# Altium schematic symbol library R.SchLib: 90 symbols (part 1 of 2)
Pins are listed as number, name and electrical type; pins without a type are passive.

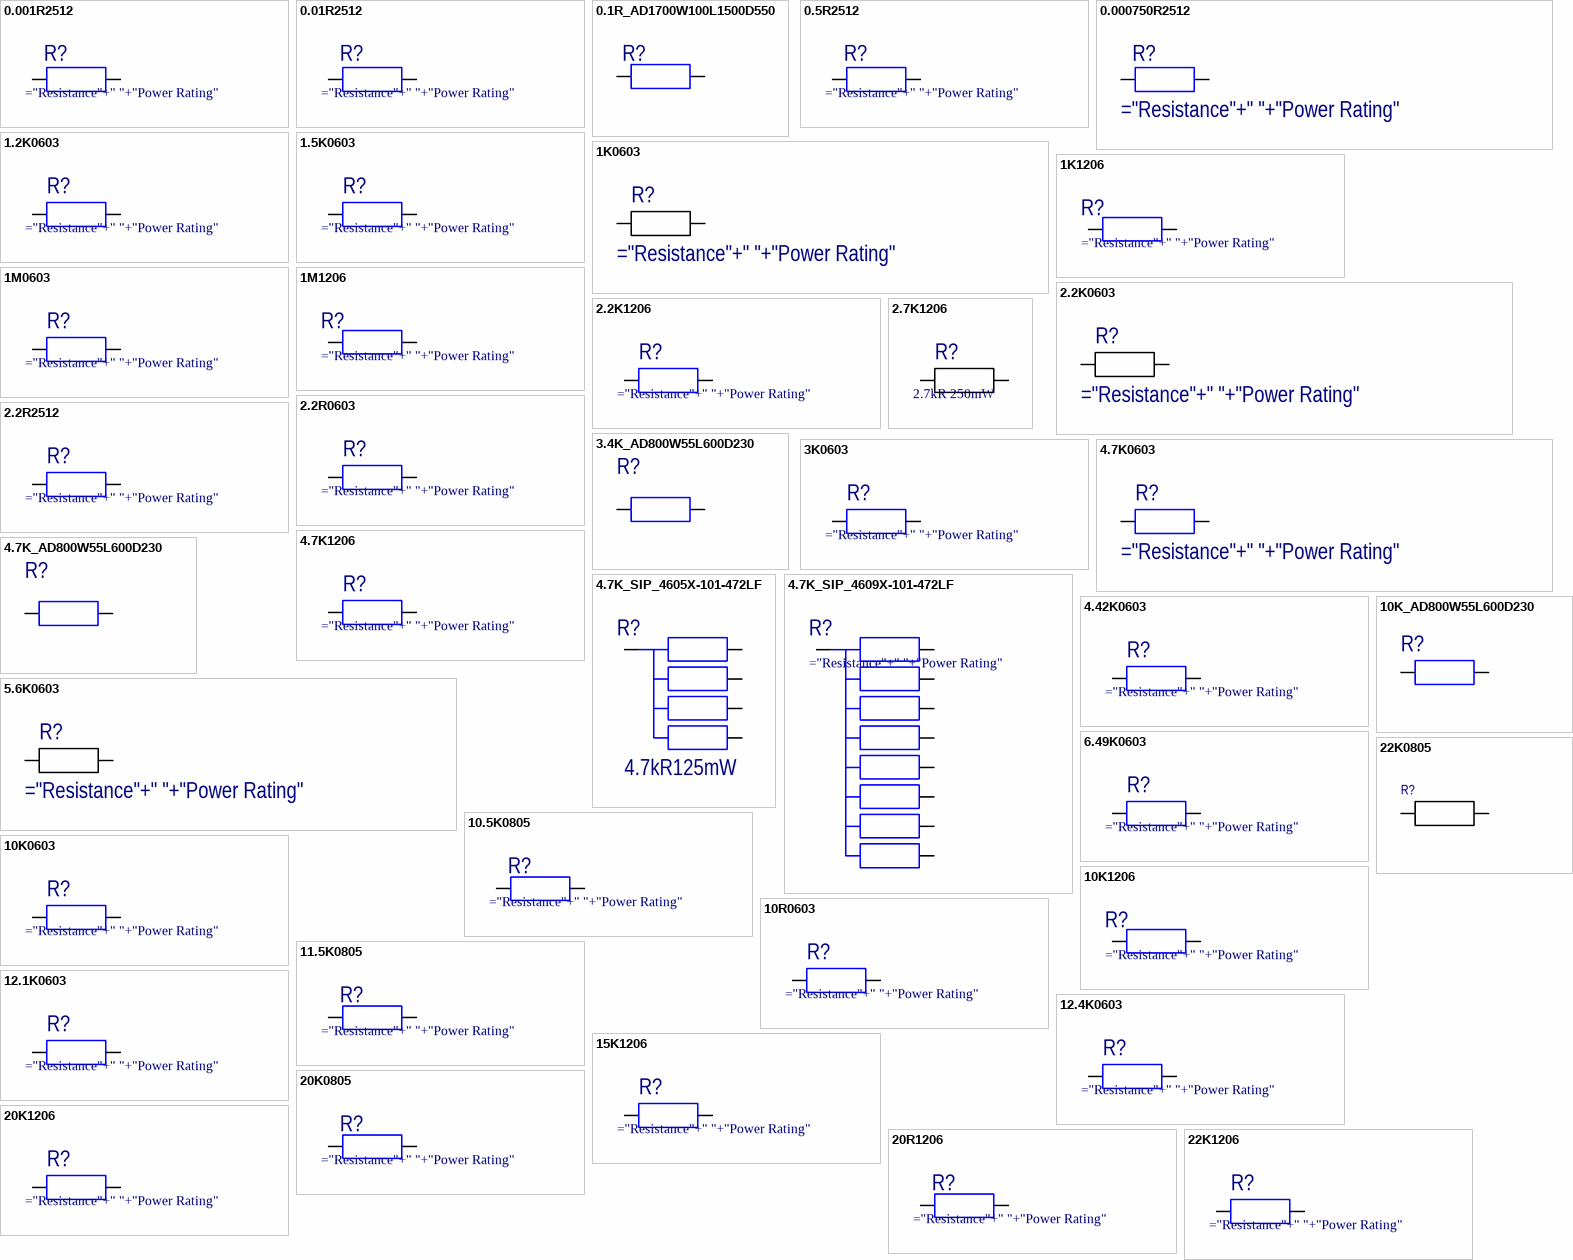
[diagram p0: symbols 0.001R2512 to 22K1206]

## 0.001R2512
designator R?
RES 0.001 OHM 1% 1W 2512; Manufacturer Part Number: PA2512FKF070R001E; Manufacturer: Yageo; SMD: 1
footprint RESC6432X09M/2512 (Chip Resistor, 2-Leads, Body 6,35x3,18mm, IPC Low Density)
pins: 1, 2

## 0.01R2512
designator R?
RES 0.01 OHM 0.5% 2W 2512; Manufacturer Part Number: PE2512DKE7W0R01L; Manufacturer: Yageo; SMD: 1
footprint RESC6332X07N/2512 (Chip Resistor, 2-Leads, Body 6,30x3,20mm, IPC Medium Density)
pins: 1, 2

## 0.1R_AD1700W100L1500D550
designator R?
RES 0.1 OHM 3W 1% AXIAL; Manufacturer: Stackpole Electronics Inc; Manufacturer Part Number: MR3FTR100; TH: 1
footprint RESAD1700W100L1500D550
pins: 1, 2

## 0.5R2512
designator R?
RES 0.5 OHM 1% 2W 2512; Manufacturer Part Number: RCWE2512R500FKEA; Manufacturer: Vishay Dale; SMD: 1
footprint RESC6332X07N/2512 (Chip Resistor, 2-Leads, Body 6,30x3,20mm, IPC Medium Density)
pins: 1, 2

## 0.000750R2512
designator R?
RES 750 UOHM 1% 1W 2512; Manufacturer Part Number: TLR3A10DR00075FTDG; Manufacturer: TE Connectivity Passive Product; SMD: 1
footprint RESC6332X07N/2512 (Chip Resistor, 2-Leads, Body 6,30x3,20mm, IPC Medium Density)
pins: 1, 2

## 1.2K0603
designator R?
RES SMD 1.2K OHM 1% 1/4W 0603; Manufacturer Part Number: RCS06031K20FKEA; Manufacturer: Vishay Dale; SMD: 1
footprint RESC1608X06N/0603 (Chip Resistor, 2-Leads, Body 1,60x0,82mm, IPC Medium Density)
pins: 1, 2

## 1.5K0603
designator R?
RES SMD 1.5K OHM 1% 1/8W 0603; Manufacturer Part Number: MCT06030C1501FP500; Manufacturer: Vishay Beyschlag; SMD: 1
footprint RESC1608X06N/0603 (Chip Resistor, 2-Leads, Body 1,60x0,82mm, IPC Medium Density)
pins: 1, 2

## 1K0603
designator R?
RES SMD 1K OHM 1% 1/10W 0603; Manufacturer Part Number: MCT06030C1001FP500; Manufacturer: Vishay Beyschlag; Resistance: 1kR; Temperature Coefficient: 50ppm/°C; Power Rating: 100mW; Voltage Rating (DC): 75V; Max Power Dissipation: 125mW; SMD: 1; Supplier 1: Digi-Key; RoHS: Yes; Category: Chip SMD Resistors; Stock 1: 195907; Pricing 1: 1=0,13000, 10=0,12100, 100=0,04650, 1000=0,02046, 2500=0,01767 (USD); Mount: Surface Mount; Case/Package: 0603; Contact Plating: Tin; Weight: 7.1E-05oz; Case Code (Metric): 1608; Case Code (Imperial): 0603; Min Operating Temperature: -55°C; Max Operating Temperature: 125°C; Tolerance: 1%; Resistor Type: Thin Film; Package Quantity: 1; Packaging: Tape and Reel; Voltage Rating: 75V; Number of Terminations: 2; Termination: SMD/SMT; Length: 1.55mm; Width: 0.033inch; Height: 0.022inch; Depth: 0.85mm; Radiation Hardening: No; Lead Free: Lead Free; Military Standard: Not; REACH SVHC: Unknown; ComponentLink1URL: https://datasheet.ciiva.com/2470/mc-pro-2470372.pdf?src-supplier=Digi-Key; ComponentLink1Description: https://datasheet.ciiva.com/2470/mc-pro-2470372.pdf?src-supplier=Digi-Key; ComponentLink2URL: https://datasheet.ciiva.com/2470/mc-pro-2470373.pdf?src-supplier=Digi-Key; ComponentLink2Description: https://datasheet.ciiva.com/2470/mc-pro-2470373.pdf?src-supplier=Digi-Key; ComponentLink3URL: https://datasheet.ciiva.com/16892/mc-pro-16892981.pdf?src-supplier=Avnet+Europe; ComponentLink3Description: https://datasheet.ciiva.com/16892/mc-pro-16892981.pdf?src-supplier=Avnet+Europe; ComponentLink4URL: https://datasheet.ciiva.com/2470/mc-pro-2470374.pdf?src-supplier=Digi-Key; ComponentLink4Description: https://datasheet.ciiva.com/2470/mc-pro-2470374.pdf?src-supplier=Digi-Key; ComponentLink5URL: https://datasheet.ciiva.com/9112/mc-pro-9112523.pdf?src-supplier=Avnet; ComponentLink5Description: https://datasheet.ciiva.com/9112/mc-pro-9112523.pdf?src-supplier=Avnet; ComponentLink6URL: https://datasheet.ciiva.com/16452/mc-pro-16452732.pdf?src-supplier=Future+Electronics; ComponentLink6Description: https://datasheet.ciiva.com/16452/mc-pro-16452732.pdf?src-supplier=Future+Electronics; Supplier Part Number 1: MCT0603-1.00K-CFCT-ND
footprint RESC1608X06N/0603 (Chip Resistor, 2-Leads, Body 1,60x0,82mm, IPC Medium Density)
pins: 1, 2

## 1K1206
designator R?
RES SMD 1K OHM 1% 1/4W 1206; Manufacturer: Rohm Semiconductor; Manufacturer Part Number: MCR18EZHF1001; SMD: 1
footprint RESC1608X06N/0603 (Footprint not found)
pins: 1, 2

## 1M0603
designator R?
RES SMD 1M OHM 1% 1/10W 0603; Manufacturer Part Number: CRCW06031M00FKEA; Manufacturer: Vishay Beyschlag; SMD: 1
footprint RESC1608X06N/0603 (Chip Resistor, 2-Leads, Body 1,60x0,82mm, IPC Medium Density)
pins: 1, 2

## 1M1206
designator R?
RES SMD 1M OHM 5% 1/4W 1206; Manufacturer Part Number: KTR18EZPJ105; Manufacturer: Rohm; SMD: 1
footprint RESC3216X07N/1206 (Chip Resistor, 2-Leads, Body 3,20x1,60mm, IPC Medium Density)
pins: 1, 2

## 2.2K0603
designator R?
AC Series 2.2 KOhm ±1% 1/10 W 0603 SMT Thick Film Chip Resistor; Manufacturer: Yageo; Manufacturer Part Number: AC0603FR-072K2L; Resistance: 2.2kR; Power Rating: 100mW; Voltage Rating: 50V; Temperature Coefficient: 100ppm/°C; Supplier 1: Digi-Key; RoHS: Yes; Category: Chip SMD Resistors; Stock 1: 173649; Pricing 1: 1=0,10000, 10=0,02500, 100=0,01020, 1000=0,00458, 2500=0,00398 (USD); Case/Package: 0603; Case Code (Metric): 1608; Case Code (Imperial): 0603; Min Operating Temperature: -55°C; Max Operating Temperature: 155°C; Tolerance: 1%; Packaging: Tape and Reel; Package Quantity: 1; Resistor Type: Thick Film; Number of Terminations: 2; Termination: SMD/SMT; Max Power Dissipation: 100mW; Features: Moisture Resistant,Automotive AEC-Q200,Anti-Sulfur; Length: 0.063inch; Width: 0.031inch; Height: 0.022inch; Depth: 0.8mm; Military Standard: Not; Lead Free: Lead Free; ComponentLink1URL: https://datasheet.ciiva.com/5558/pyu-ac-51-rohs-l-2-5558158.pdf?src-supplier=Mouser; ComponentLink1Description: https://datasheet.ciiva.com/5558/pyu-ac-51-rohs-l-2-5558158.pdf?src-supplier=Mouser; Supplier Part Number 1: 311-2.2KLDCT-ND
footprint RESC1608X06N/0603 (Chip Resistor, 2-Leads, Body 1,60x0,82mm, IPC Medium Density)
pins: 1, 2

## 2.2K1206
designator R?
RES SMD 2.2 KOHM 1% 1/4W 1206; Manufacturer: Yageo; Manufacturer Part Number: RC1206FR-072K2L; SMD: 1
footprint RESC3216X07N/1206 (Chip Resistor, 2-Leads, Body 3,20x1,60mm, IPC Medium Density)
pins: 1, 2

## 2.2R0603
designator R?
RES SMD 2.2 OHM 1% 1/4W 0603; Manufacturer Part Number: RCS06032R20FKEA; Manufacturer: Vishay Dale; SMD: 1
footprint RESC1608X06N/0603 (Chip Resistor, 2-Leads, Body 1,60x0,82mm, IPC Medium Density)
pins: 1, 2

## 2.2R2512
designator R?
RES 2.2 OHM 1% 1W 2512; Manufacturer Part Number: RMCF2512FT2R20; Manufacturer: Stackpole Electronics Inc; SMD: 1
footprint RESC6332X07N/2512 (Chip Resistor, 2-Leads, Body 6,30x3,20mm, IPC Medium Density)
pins: 1, 2

## 2.7K1206
designator R?, comment 2.7kR 250mW
Thick Film Resistors 2.7K OHM 1%; Manufacturer: Yageo; Manufacturer Part Number: RC1206FR-072K7L; Temperature Coefficient: 100ppm/°C; Voltage Rating: 200V; SMD: 1; Supplier 1: Digi-Key; Supplier Part Number 1: 311-2.70KFRCT-ND; RoHS: Yes; Category: Chip SMD Resistors; Stock: 450214; Pricing: 1=0,10000, 10=0,07400, 100=0,03010, 1000=0,01353, 2500=0,01174 (USD); Case/Package: 1206; Case Code (Imperial): 1206; Case Code (Metric): 3216; Weight: 0.000571oz; Size Code: 1206; Min Operating Temperature: -55°C; Max Operating Temperature: 155°C; Tolerance: 1%; Resistance: 2.7kR; Power Rating: 250mW; Packaging: Tape and Reel; Termination: SMD/SMT; Resistor Type: Thick Film; Features: Moisture Resistant; Series: RC; Max Power Dissipation: 250mW; Number of Terminations: 2; Resistance Tolerance: 1%; Construction: Rectangular; Length: 3.2mm; Width: 1.6mm; Height: 0.55mm; Depth: 1.6mm; REACH SVHC: Unknown; Lead Free: Lead Free; Military Standard: Not; RoHS Compliant: Yes; ComponentLink1URL: https://datasheet.ciiva.com/7857/444357-7857317.pdf?src-supplier=Element14; ComponentLink1Description: https://datasheet.ciiva.com/7857/444357-7857317.pdf?src-supplier=Element14; ComponentLink2URL: https://datasheet.ciiva.com/7857/444357-7857318.pdf?src-supplier=Element14; ComponentLink2Description: https://datasheet.ciiva.com/7857/444357-7857318.pdf?src-supplier=Element14
footprint RESC2012X07 (Chip Resistor, 2-Leads, Body 2,00x1,25mm, IPC Medium Density 0805)
pins: 1, 2

## 3.4K_AD800W55L600D230
designator R?
RES 3.4K OHM 1/4W 1% AXIAL; Manufacturer: Stackpole Electronics; Manufacturer Part Number: RNF14FTD3K40; TH: 1
footprint RESAD800W55L600D230
pins: 1, 2

## 3K0603
designator R?
RES SMD 3K OHM 1% 1/4W 0603; Manufacturer Part Number: ERJ-PA3F3001V; Manufacturer: Panasonic Electronic Components; SMD: 1
footprint RESC1608X06N/0603 (Chip Resistor, 2-Leads, Body 1,60x0,82mm, IPC Medium Density)
pins: 1, 2

## 4.7K0603
designator R?
RES SMD 4.7K OHM 1% 1/8W 0603; Manufacturer Part Number: MCT06030C4701FP500; Manufacturer: Vishay Beyschlag; Temperature Coefficient: 50ppm/°C; Resistance: 4.7kR; Max Power Dissipation: 125mW; Voltage Rating (DC): 75V; SMD: 1; Supplier 1: Digi-Key; RoHS: Yes; Category: Chip SMD Resistors; Stock 1: 55409; Pricing 1: 1=0,13000, 10=0,12100, 100=0,04650, 1000=0,02046, 2500=0,01767 (USD); Mount: Surface Mount; Case/Package: 0603; Contact Plating: Tin; Case Code (Imperial): 0603; Case Code (Metric): 1608; Min Operating Temperature: -55°C; Max Operating Temperature: 125°C; Tolerance: 1%; Resistor Type: Thin Film; Packaging: Tape and Reel; Power Rating: 125mW; Package Quantity: 1; Number of Terminations: 2; Voltage Rating: 75V; Length: 1.55mm; Width: 0.033inch; Height: 0.022inch; Depth: 0.85mm; Radiation Hardening: No; Lead Free: Lead Free; Military Standard: Not; REACH SVHC: No SVHC; ComponentLink1URL: https://datasheet.ciiva.com/8897/mc-pro-8897829.pdf?src-supplier=Avnet; ComponentLink1Description: https://datasheet.ciiva.com/8897/mc-pro-8897829.pdf?src-supplier=Avnet; ComponentLink2URL: https://datasheet.ciiva.com/2525/mc-pro-2525199.pdf?src-supplier=Digi-Key; ComponentLink2Description: https://datasheet.ciiva.com/2525/mc-pro-2525199.pdf?src-supplier=Digi-Key; ComponentLink3URL: https://datasheet.ciiva.com/16452/mc-pro-16452668.pdf?src-supplier=Future+Electronics; ComponentLink3Description: https://datasheet.ciiva.com/16452/mc-pro-16452668.pdf?src-supplier=Future+Electronics; ComponentLink4URL: https://datasheet.ciiva.com/2525/mc-pro-2525197.pdf?src-supplier=Digi-Key; ComponentLink4Description: https://datasheet.ciiva.com/2525/mc-pro-2525197.pdf?src-supplier=Digi-Key; ComponentLink5URL: https://datasheet.ciiva.com/2525/mc-pro-2525198.pdf?src-supplier=Digi-Key; ComponentLink5Description: https://datasheet.ciiva.com/2525/mc-pro-2525198.pdf?src-supplier=Digi-Key; Supplier Part Number 1: MCT0603-4.70K-CFCT-ND
footprint RESC1608X06N/0603 (Chip Resistor, 2-Leads, Body 1,60x0,82mm, IPC Medium Density)
pins: 1, 2

## 4.7K1206
designator R?
RES SMD 4.7K OHM 1% 1/4W 1206; Manufacturer: Panasonic; Manufacturer Part Number: ERJ-8ENF4701V; SMD: 1
footprint RESC3216X07N/1206 (Chip Resistor, 2-Leads, Body 3,20x1,60mm, IPC Medium Density)
pins: 1, 2

## 4.7K_AD800W55L600D230
designator R?
RES 4.7K OHM 1/4W 5% AXIAL; Manufacturer: Stackpole Electronics; Manufacturer Part Number: CF14JT4K70; TH: 1
footprint RESAD800W55L600D230
pins: 1, 2

## 4.7K_SIP_4605X-101-472LF
designator R?, comment 4.7kR125mW
Res Thick Film NET 4.7K Ohm 2% 0.63W 100ppm/ C BUS Conformal 5-Pin SIP Pin Thru-Hole Bulk; Manufacturer: Bourns; Manufacturer Part Number: 4605X-101-472LF; TH: 1; Number of Terminals/Pins: 5; Resistance: 4.7kR; Number of Resistors: 4; Temperature Coefficient: 100ppm/°C; Power Rating: 630mW; Voltage Rating: 100V; Circuit Type: Bussed; Power Per Element: 125mW; Insulation Resistance: 10MR; Lead Length: 3.43mm; Lead Diameter: 0.508mm; Supplier 1: Digi-Key; RoHS: Yes; Category: Resistor Arrays; Stock 1: 1164; Pricing 1: 1=0,50000, 10=0,36000, 25=0,28080, 50=0,23760, 100=0,18720, 250=0,15840, 500=0,12960, 1000=0,10080, 5000=0,09576 (USD); Mount: Through Hole; Case/Package: SIP; Number of Pins: 5; Weight: 0.009224oz; Min Operating Temperature: -55°C; Max Operating Temperature: 125°C; Packaging: Bulk; Number of Elements: 4; Tolerance: 2%; Package Quantity: 200; Termination: SIP; Series: 4600X; Length: 12.65mm; Width: 2.49mm; Height: 5.08mm; Lead Pitch: 2.54mm; Depth: 2.49mm; Terminal Pitch: 2.54mm; Radiation Hardening: No; REACH SVHC: No SVHC; Military Standard: Not; RoHS Compliant: Yes; ComponentLink1URL: https://datasheet.ciiva.com/3263/4600x-3263632.pdf?src-supplier=Avnet; ComponentLink1Description: https://datasheet.ciiva.com/3263/4600x-3263632.pdf?src-supplier=Avnet; ComponentLink2URL: https://datasheet.ciiva.com/11807/0900766b8069ccfd-11807025.pdf?src-supplier=RSComponents; ComponentLink2Description: https://datasheet.ciiva.com/11807/0900766b8069ccfd-11807025.pdf?src-supplier=RSComponents; ComponentLink3URL: https://datasheet.ciiva.com/1132/682196-1132966.pdf?src-supplier=Element14; ComponentLink3Description: https://datasheet.ciiva.com/1132/682196-1132966.pdf?src-supplier=Element14; ComponentLink4URL: https://datasheet.ciiva.com/6533/4600x-6533599.pdf?src-supplier=Digi-Key; ComponentLink4Description: https://datasheet.ciiva.com/6533/4600x-6533599.pdf?src-supplier=Digi-Key; Supplier Part Number 1: 4605X-101-472LF-ND
footprint SIP-5
pins: 1, 2, 3, 4, 5

## 4.7K_SIP_4609X-101-472LF
designator R?
RES ARRAY 8 RES 4.7K OHM 9SIP; Manufacturer: Bourns; Manufacturer Part Number: 4609X-101-472LF; TH: 1
footprint SIP250W55P254L2280H500Q9
pins: 1, 2, 3, 4, 5, 6, 7, 8, 9

## 4.42K0603
designator R?
RES SMD 4.42K OHM 1% 1/8W 0603; Manufacturer Part Number: MCT06030C4421FP500; Manufacturer: Vishay Beyschlag; SMD: 1
footprint RESC1608X06N/0603 (Chip Resistor, 2-Leads, Body 1,60x0,82mm, IPC Medium Density)
pins: 1, 2

## 5.6K0603
designator R?
RES 5.6K OHM 1% 1/10W 0603; Manufacturer Part Number: RMCF0603FT5K60; Manufacturer: Stackpole Electronics Inc; Resistance: 5.6kR; Max Power Dissipation: 100mW; Temperature Coefficient: 100ppm/°C; SMD: 1; Supplier 1: Digi-Key; RoHS: Yes; Category: Chip SMD Resistors; Stock 1: 42751; Pricing 1: 1=0,10000, 10=0,01600, 100=0,00650, 1000=0,00292, 2500=0,00253 (USD); Mount: Surface Mount; Case/Package: 0603; Case Code (Metric): 1608; Case Code (Imperial): 0603; Contact Plating: Tin,Matte; Min Operating Temperature: -55°C; Max Operating Temperature: 155°C; Packaging: Tape and Reel; Tolerance: 1%; Resistor Type: Thick Film; Number of Terminations: 2; Features: Automotive AEC-Q200; Series: RMCF; Length: 0.061inch; Width: 0.031inch; Height: 0.022inch; Radiation Hardening: No; RoHS Compliant: Yes; ComponentLink1URL: https://www.seielect.com/catalog/SEI-Packaging.pdf?src-supplier=Digi-Key; ComponentLink1Description: https://www.seielect.com/catalog/SEI-Packaging.pdf?src-supplier=Digi-Key; ComponentLink2URL: https://www.seielect.com/catalog/SEI-RMCF_RMCP.pdf?src-supplier=Avnet; ComponentLink2Description: https://www.seielect.com/catalog/SEI-RMCF_RMCP.pdf?src-supplier=Avnet; Supplier Part Number 1: RMCF0603FT5K60CT-ND; Power Rating: 100mW
footprint RESC1608X06N/0603 (Chip Resistor, 2-Leads, Body 1,60x0,82mm, IPC Medium Density)
pins: 1, 2

## 6.49K0603
designator R?
RES SMD 6.49K OHM 1% 1/8W 0603; Manufacturer Part Number: MCT06030C6491FP500; Manufacturer: Vishay Beyschlag; SMD: 1
footprint RESC1608X06N/0603 (Chip Resistor, 2-Leads, Body 1,60x0,82mm, IPC Medium Density)
pins: 1, 2

## 10.5K0805
designator R?
RES SMD 10.5K OHM 1% 1/8W 0805; Manufacturer Part Number: CRCW080510K5FKEA; Manufacturer: Vishay; SMD: 1
footprint RESC2012X07N/0805 (Chip Resistor, 2-Leads, Body 2,00x1,25mm, IPC Medium Density)
pins: 1, 2

## 10K0603
designator R?
RES SMD 10K OHM 1% 1/4W 0603; Manufacturer Part Number: ESR03EZPF1002; Manufacturer: Rohm Semiconductor; SMD: 1
footprint RESC1608X06N/0603 (Chip Resistor, 2-Leads, Body 1,60x0,82mm, IPC Medium Density)
pins: 1, 2

## 10K1206
designator R?
RES SMD 10K OHM 1% 1/4W 1206; Manufacturer: Panasonic; Manufacturer Part Number: ERJ8ENF1002V; SMD: 1
footprint RESC3216X07N/1206 (Chip Resistor, 2-Leads, Body 3,20x1,60mm, IPC Medium Density)
pins: 1, 2

## 10K_AD800W55L600D230
designator R?
RES 10K OHM 1/4W 5% AXIAL; Manufacturer: Stackpole Electronics; Manufacturer Part Number: CF14JT10K0; TH: 1
footprint RESAD800W55L600D230
pins: 1, 2

## 10R0603
designator R?
RES 10 OHM 1% 1/8W 0603; Manufacturer Part Number: RNCP0603FTD10R0; Manufacturer: Stackpole Electronics Inc; SMD: 1
footprint RESC1608X06N/0603 (Chip Resistor, 2-Leads, Body 1,60x0,82mm, IPC Medium Density)
pins: 1, 2

## 11.5K0805
designator R?
RES SMD 11.5K OHM 1% 1/8W 0805; Manufacturer Part Number: CRCW080511K5FKEA; Manufacturer: Vishay; SMD: 1
footprint RESC2012X07N/0805 (Chip Resistor, 2-Leads, Body 2,00x1,25mm, IPC Medium Density)
pins: 1, 2

## 12.1K0603
designator R?
RES SMD 12.1K OHM 1% 1/8W 0603; Manufacturer Part Number: MCT06030C1212FP500; Manufacturer: Vishay Beyschlag; SMD: 1
footprint RESC1608X06N/0603 (Chip Resistor, 2-Leads, Body 1,60x0,82mm, IPC Medium Density)
pins: 1, 2

## 12.4K0603
designator R?
RES SMD 12.4K OHM 1% 1/10W 0603; Manufacturer Part Number: RC0603FR-0712K4L; Manufacturer: Yageo; SMD: 1
footprint RESC1608X06N/0603 (Chip Resistor, 2-Leads, Body 1,60x0,82mm, IPC Medium Density)
pins: 1, 2

## 15K1206
designator R?
RES SMD 15K OHM 1% 1/4W 1206; Manufacturer: Panasonic; Manufacturer Part Number: ERJ-8ENF1502V; SMD: 1
footprint RESC3216X07N/1206 (Chip Resistor, 2-Leads, Body 3,20x1,60mm, IPC Medium Density)
pins: 1, 2

## 20K0805
designator R?
RES SMD 20K OHM 1% 1/8W 0805; Manufacturer Part Number: ERJ-6ENF2002V; Manufacturer: Panasonic; Resistance: 20kR; Temperature Coefficient: 100ppm/°C; Power Rating: 125mW; Voltage Rating: 150V; Description: VISHAY - CRCW080522K0FKEA - RES, THICK FILM, 22K, 1%, 0.125W, 0805, REEL; SMD: 1; Supplier 1: Digi-Key; Supplier Part Number 1: 541-20.0KCCT-ND; RoHS: Yes; Category: Chip SMD Resistors; Stock 1: 1324; Pricing 1: 1=0,10000, 10=0,06500, 100=0,02660, 1000=0,01195, 2500=0,01037 (USD); Mount: Surface Mount; Case/Package: 0805; Number of Pins: 2; Case Code (Imperial): 0805; Case Code (Metric): 2012; Contact Plating: Tin; Weight: 0.000194oz; Min Operating Temperature: -55°C; Max Operating Temperature: 155°C; Packaging: Tape and Reel; Tolerance: 1%; Resistor Type: Thick Film; Number of Terminations: 2; Series: CRCW; Max Power Dissipation: 125mW; Voltage Rating (DC): 150V; Package Quantity: 10; Termination: SMD/SMT; Features: Automotive AEC-Q200; Resistance Tolerance: 1%; Construction: Rectangular; Technology: THICK FILM; Working Voltage: 150V; Length: 2mm; Width: 1.25mm; Height: 0.45mm; Depth: 1.25mm; RoHS Compliant: Yes; Lead Free: Lead Free; REACH SVHC: Unknown; Military Standard: Not; ComponentLink1URL: https://datasheet.ciiva.com/11810/0900766b80d98b26-11810856.pdf?src-supplier=RSComponents; ComponentLink1Description: https://datasheet.ciiva.com/11810/0900766b80d98b26-11810856.pdf?src-supplier=RSComponents; ComponentLink2URL: https://datasheet.ciiva.com/5562/dcrcwe3-109170-5562293.pdf?src-supplier=Mouser; ComponentLink2Description: https://datasheet.ciiva.com/5562/dcrcwe3-109170-5562293.pdf?src-supplier=Mouser; ComponentLink3URL: https://datasheet.ciiva.com/16199/dcrcwe3-16199237.pdf?src-supplier=Future+Electronics; ComponentLink3Description: https://datasheet.ciiva.com/16199/dcrcwe3-16199237.pdf?src-supplier=Future+Electronics; ComponentLink4URL: https://datasheet.ciiva.com/8337/dcrcwe3-8337655.pdf?src-supplier=Avnet; ComponentLink4Description: https://datasheet.ciiva.com/8337/dcrcwe3-8337655.pdf?src-supplier=Avnet; ComponentLink5URL: https://datasheet.ciiva.com/16779/70201119-16779384.pdf?src-supplier=Allied+Electronics; ComponentLink5Description: https://datasheet.ciiva.com/16779/70201119-16779384.pdf?src-supplier=Allied+Electronics; ComponentLink6URL: https://datasheet.ciiva.com/26317/fld-crcw-e3-data-en-26317160.pdf?src-supplier=Distrelec; ComponentLink6Description: https://datasheet.ciiva.com/26317/fld-crcw-e3-data-en-26317160.pdf?src-supplier=Distrelec; ComponentLink7URL: https://datasheet.ciiva.com/16852/dcrcwe3-16852955.pdf?src-supplier=Avnet+Europe; ComponentLink7Description: https://datasheet.ciiva.com/16852/dcrcwe3-16852955.pdf?src-supplier=Avnet+Europe; ComponentLink8URL: https://datasheet.ciiva.com/2467/dcrcwe3-2467197.pdf?src-supplier=Digi-Key; ComponentLink8Description: https://datasheet.ciiva.com/2467/dcrcwe3-2467197.pdf?src-supplier=Digi-Key; ComponentLink9URL: https://datasheet.ciiva.com/2467/dcrcwe3-2467198.pdf?src-supplier=Digi-Key; ComponentLink9Description: https://datasheet.ciiva.com/2467/dcrcwe3-2467198.pdf?src-supplier=Digi-Key; ComponentLink10URL: https://datasheet.ciiva.com/7841/1720486-7841886.pdf?src-supplier=Element14; ComponentLink10Description: https://datasheet.ciiva.com/7841/1720486-7841886.pdf?src-supplier=Element14; ComponentLink11URL: https://datasheet.ciiva.com/2467/dcrcwe3-2467199.pdf?src-supplier=Digi-Key; ComponentLink11Description: https://datasheet.ciiva.com/2467/dcrcwe3-2467199.pdf?src-supplier=Digi-Key; Supplier 2: Digi-Key; Supplier Part Number 2: 541-22.0KCCT-ND; Stock: 9872; Pricing: 1=0,10000, 10=0,06500, 100=0,02660, 1000=0,01195, 2500=0,01037 (USD); Size Code: 0805; Radiation Hardening: No; ComponentLink12URL: https://datasheet.ciiva.com/7673/1720486-7673152.pdf?src-supplier=Element14; ComponentLink12Description: https://datasheet.ciiva.com/7673/1720486-7673152.pdf?src-supplier=Element14; ComponentLink13URL: https://datasheet.ciiva.com/11808/0900766b80d98b26-11808659.pdf?src-supplier=RSComponents; ComponentLink13Description: https://datasheet.ciiva.com/11808/0900766b80d98b26-11808659.pdf?src-supplier=RSComponents; ComponentLink14URL: https://datasheet.ciiva.com/2514/dcrcwe3-2514289.pdf?src-supplier=Digi-Key; ComponentLink14Description: https://datasheet.ciiva.com/2514/dcrcwe3-2514289.pdf?src-supplier=Digi-Key; ComponentLink15URL: https://datasheet.ciiva.com/2514/dcrcwe3-2514290.pdf?src-supplier=Digi-Key; ComponentLink15Description: https://datasheet.ciiva.com/2514/dcrcwe3-2514290.pdf?src-supplier=Digi-Key; ComponentLink16URL: https://datasheet.ciiva.com/2514/dcrcwe3-2514291.pdf?src-supplier=Digi-Key; ComponentLink16Description: https://datasheet.ciiva.com/2514/dcrcwe3-2514291.pdf?src-supplier=Digi-Key; ComponentLink17URL: https://datasheet.ciiva.com/7672/1697337-7672966.pdf?src-supplier=Element14; ComponentLink17Description: https://datasheet.ciiva.com/7672/1697337-7672966.pdf?src-supplier=Element14; ComponentLink18URL: https://datasheet.ciiva.com/16852/dcrcwe3-16852982.pdf?src-supplier=Avnet+Europe; ComponentLink18Description: https://datasheet.ciiva.com/16852/dcrcwe3-16852982.pdf?src-supplier=Avnet+Europe; ComponentLink19URL: https://datasheet.ciiva.com/5548/dcrcwe3-109170-5548344.pdf?src-supplier=Mouser; ComponentLink19Description: https://datasheet.ciiva.com/5548/dcrcwe3-109170-5548344.pdf?src-supplier=Mouser; ComponentLink20URL: https://datasheet.ciiva.com/26317/fld-crcw-e3-data-en-26317161.pdf?src-supplier=Distrelec; ComponentLink20Description: https://datasheet.ciiva.com/26317/fld-crcw-e3-data-en-26317161.pdf?src-supplier=Distrelec; ComponentLink21URL: https://datasheet.ciiva.com/3258/dcrcwe3-3258332.pdf?src-supplier=Avnet; ComponentLink21Description: https://datasheet.ciiva.com/3258/dcrcwe3-3258332.pdf?src-supplier=Avnet; ComponentLink22URL: https://datasheet.ciiva.com/3258/dcrcwe3-3258333.pdf?src-supplier=Avnet; ComponentLink22Description: https://datasheet.ciiva.com/3258/dcrcwe3-3258333.pdf?src-supplier=Avnet; ComponentLink23URL: https://datasheet.ciiva.com/22676/1847332-22676335.pdf?src-supplier=Element14; ComponentLink23Description: https://datasheet.ciiva.com/22676/1847332-22676335.pdf?src-supplier=Element14; Supplier 3: Digi-Key; Supplier Part Number 3: P20KBCCT-ND; ComponentLink24URL: https://datasheet.ciiva.com/6138/391390-6138645.pdf?src-supplier=Farnell; ComponentLink24Description: https://datasheet.ciiva.com/6138/391390-6138645.pdf?src-supplier=Farnell; ComponentLink25URL: https://datasheet.ciiva.com/48425/era-eng-tds-48425525.pdf?src-supplier=Distrelec; ComponentLink25Description: https://datasheet.ciiva.com/48425/era-eng-tds-48425525.pdf?src-supplier=Distrelec; ComponentLink26URL: https://datasheet.ciiva.com/28688/391390-28688583.pdf?src-supplier=Element14; ComponentLink26Description: https://datasheet.ciiva.com/28688/391390-28688583.pdf?src-supplier=Element14; ComponentLink27URL: https://datasheet.ciiva.com/48531/era-eng-tds-48531501.pdf?src-supplier=Distrelec; ComponentLink27Description: https://datasheet.ciiva.com/48531/era-eng-tds-48531501.pdf?src-supplier=Distrelec
footprint RESC2012X07 (Chip Resistor, 2-Leads, Body 2,00x1,25mm, IPC Medium Density 0805)
pins: 1, 2

## 20K1206
designator R?
RES SMD 20K OHM 1% 1/4W 1206; Manufacturer: Yageo; Manufacturer Part Number: RC1206FR-0720KL; SMD: 1
footprint RESC3216X07N/1206 (Chip Resistor, 2-Leads, Body 3,20x1,60mm, IPC Medium Density)
pins: 1, 2

## 20R1206
designator R?
RES SMD 20 OHM 1% 1/4W 1206; Manufacturer Part Number: ERJ-8ENF20R0V; Manufacturer: Panasonic Electronic Components; SMD: 1
footprint RESC3216X07N/1206 (Chip Resistor, 2-Leads, Body 3,20x1,60mm, IPC Medium Density)
pins: 1, 2

## 22K0805
designator R?, comment 22kR 125mW
RES SMD 22K OHM 1% 1/8W 0805; Manufacturer: Yageo; Manufacturer Part Number: RT0805FRE0722KL; Temperature Coefficient: 50ppm/°C; Voltage Rating: 150V; Supplier 1: Arrow Electronics; Supplier Part Number 1: RT0805FRE0722KL; RoHS: Yes; Category: Chip SMD Resistors; Stock: 7; Pricing: 1=0,05330, 5000=0,00830, 50000=0,00810, 500000=0,00690, 2500000=0,00630 (USD); Case/Package: 0805; Case Code (Metric): 2012; Case Code (Imperial): 0805; Size Code: 0805; Min Operating Temperature: -55°C; Max Operating Temperature: 125°C; Tolerance: 1%; Resistance: 22kR; Packaging: Tape and Reel; Resistor Type: Thin Film; Series: RT; Power Rating: 125mW; Max Power Dissipation: 125mW; Number of Terminations: 2; Termination: SMD/SMT; Package Quantity: 5000; Voltage Rating (DC): 150V; Construction: Rectangular; Resistance Tolerance: 1%; Length: 0.079inch; Width: 0.049inch; Height: 0.024inch; Depth: 1.25mm; RoHS Compliant: Yes; Lead Free: Lead Free; Military Standard: Not; REACH SVHC: Unknown; ComponentLink1URL: https://datasheet.ciiva.com/2561/pyu-rt-1-to-0-05-rohs-l-5-2561066.pdf?src-supplier=Digi-Key; ComponentLink1Description: https://datasheet.ciiva.com/2561/pyu-rt-1-to-0-05-rohs-l-5-2561066.pdf?src-supplier=Digi-Key; ComponentLink2URL: https://datasheet.ciiva.com/12695/pyu-rt-1-to-0-05-rohs-l-4-12695291.pdf?src-supplier=Mouser; ComponentLink2Description: https://datasheet.ciiva.com/12695/pyu-rt-1-to-0-05-rohs-l-4-12695291.pdf?src-supplier=Mouser
footprint RESC2012X07 (Chip Resistor, 2-Leads, Body 2,00x1,25mm, IPC Medium Density 0805)
pins: 1, 2

## 22K1206
designator R?
RES SMD 22K OHM 1% 1/4W 1206; Manufacturer: Yageo; Manufacturer Part Number: RC1206FR-0722KL; SMD: 1
footprint RESC3216X07N/1206 (Chip Resistor, 2-Leads, Body 3,20x1,60mm, IPC Medium Density)
pins: 1, 2

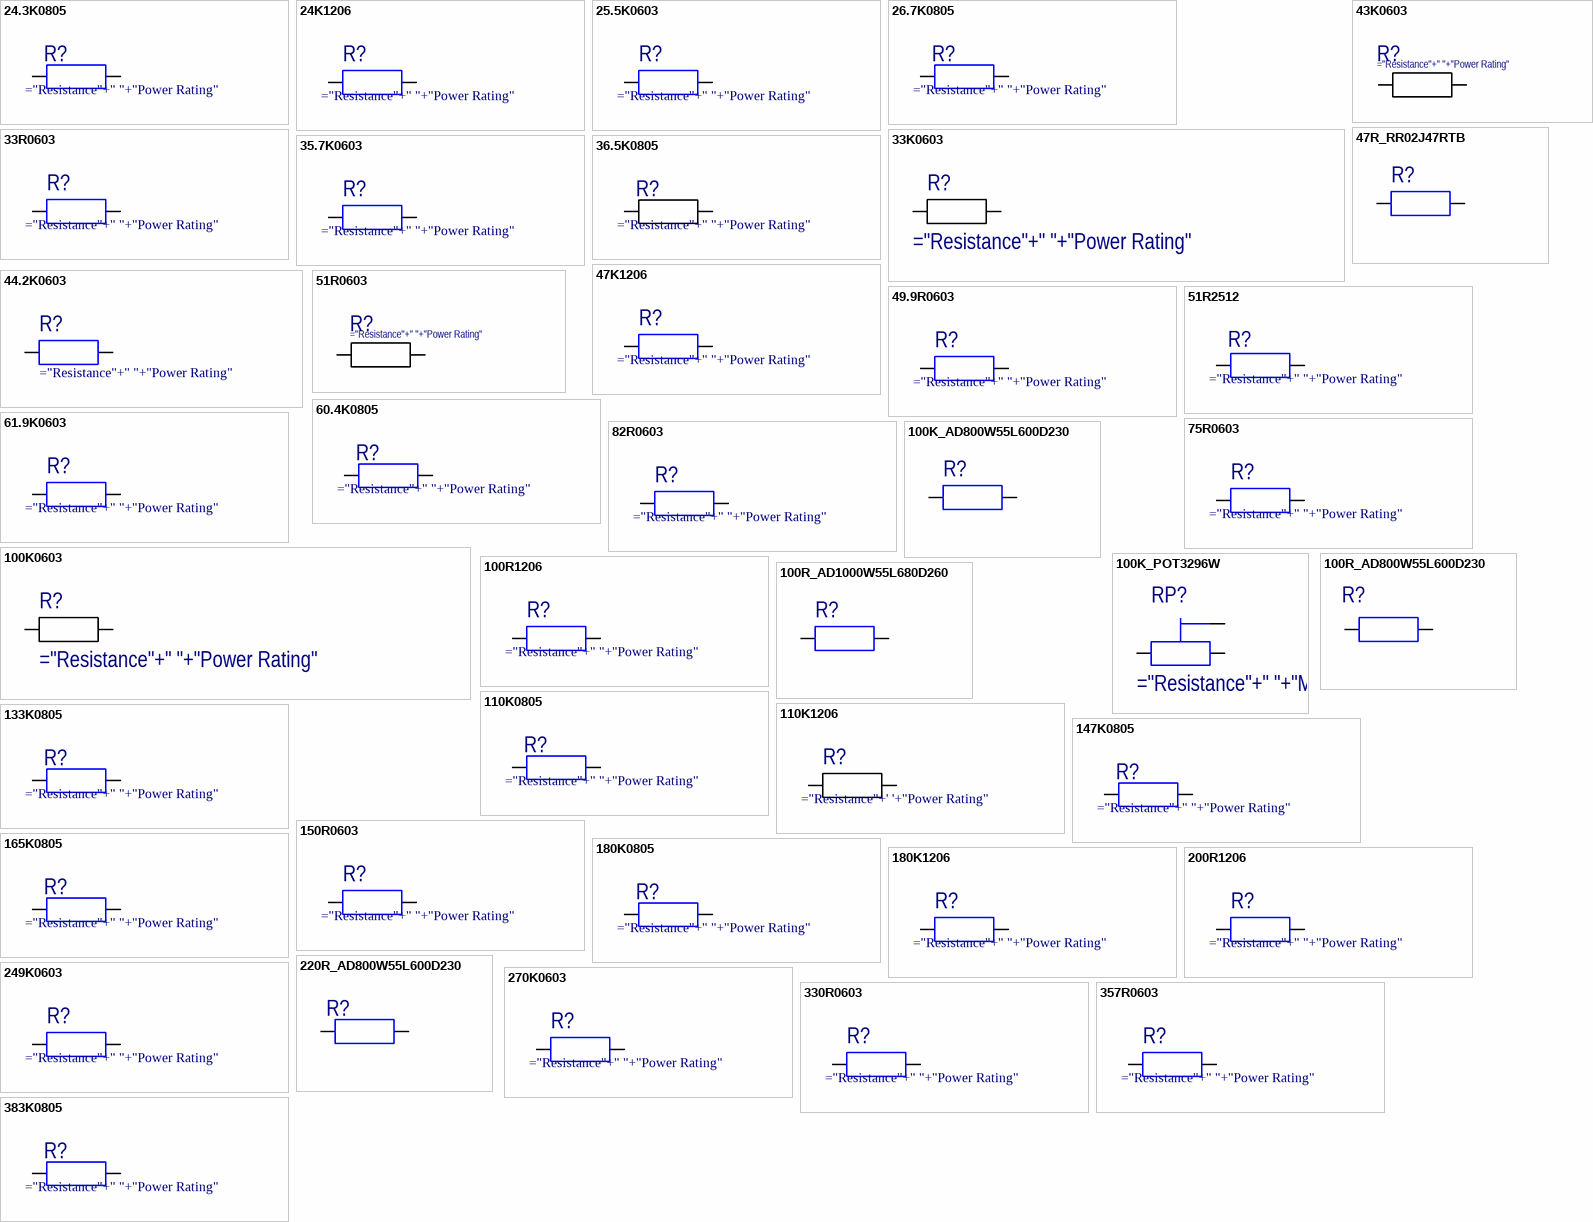
[diagram p1: symbols 24.3K0805 to 383K0805]

## 24.3K0805
designator R?
RES SMD 24.3K OHM 1% 1/8W 0805; Manufacturer Part Number: ERJ-6ENF2432V; Manufacturer: Panasonic; SMD: 1
footprint RESC2012X07N/0805 (Chip Resistor, 2-Leads, Body 2,00x1,25mm, IPC Medium Density)
pins: 1, 2

## 24K1206
designator R?
RES SMD 24K OHM 1% 1/4W 1206; Manufacturer: Yageo; Manufacturer Part Number: RC1206FR-0724KL; SMD: 1
footprint RESC3216X07N/1206 (Chip Resistor, 2-Leads, Body 3,20x1,60mm, IPC Medium Density)
pins: 1, 2

## 25.5K0603
designator R?
RES SMD 25.5K OHM 1% 1/8W 0603; Manufacturer Part Number: MCT06030C2552FP500; Manufacturer: Vishay Beyschlag; SMD: 1
footprint RESC1608X06N/0603 (Chip Resistor, 2-Leads, Body 1,60x0,82mm, IPC Medium Density)
pins: 1, 2

## 26.7K0805
designator R?
RES SMD 26.7K OHM 1% 1/8W 0805; Manufacturer Part Number: CRCW080526K7FKEA; Manufacturer: Vishay; SMD: 1
footprint RESC2012X07N/0805 (Chip Resistor, 2-Leads, Body 2,00x1,25mm, IPC Medium Density)
pins: 1, 2

## 33K0603
designator R?
RES 33K OHM 1% 1/10W 0603; Manufacturer Part Number: MCT06030C3302FP500; Manufacturer: Vishay Beyschlag; Voltage Rating (DC): 75V; Power Rating: 125mW; Resistance: 33kR; SMD: 1; Supplier 1: Digi-Key; RoHS: Yes; Category: Chip SMD Resistors; Stock 1: 8890; Pricing 1: 1=0,13000, 10=0,12100, 100=0,04650, 1000=0,02046, 2500=0,01767 (USD); Case/Package: 0603; Case Code (Metric): 1608; Case Code (Imperial): 0603; Min Operating Temperature: -55°C; Max Operating Temperature: 125°C; Resistor Type: Thin Film; Voltage Rating: 75V; Tolerance: 1%; Packaging: Tape and Reel; Length: 1.55mm; Width: 850um; Depth: 0.85mm; Lead Free: Lead Free; Military Standard: Not; REACH SVHC: No SVHC; ComponentLink1URL: http://components.arrow.com/part/dataview/0323_01966508?src-supplier=Arrow+Europe; ComponentLink1Description: http://components.arrow.com/part/dataview/0323_01966508?src-supplier=Arrow+Europe; ComponentLink2URL: http://www.vishay.com/docs/28705/mcx0x0xpro.pdf?src-supplier=Digi-Key; ComponentLink2Description: http://www.vishay.com/docs/28705/mcx0x0xpro.pdf?src-supplier=Digi-Key; ComponentLink3URL: http://www.farnell.com/datasheets/2099796.pdf?src-supplier=Element14; ComponentLink3Description: http://www.farnell.com/datasheets/2099796.pdf?src-supplier=Element14; ComponentLink4URL: http://www.farnell.com/datasheets/2099796.pdf?src-supplier=Newark; ComponentLink4Description: http://www.farnell.com/datasheets/2099796.pdf?src-supplier=Newark; Supplier Part Number 1: MCT0603-33.0K-CFCT-ND
footprint RESC1608X06N/0603 (Chip Resistor, 2-Leads, Body 1,60x0,82mm, IPC Medium Density)
pins: 1, 2

## 33R0603
designator R?
RES 33OHM 1% 1/8W 0603; Manufacturer Part Number: MCT06030C3309FP500; Manufacturer: Vishay Beyschlag; SMD: 1
footprint RESC1608X06N/0603 (Chip Resistor, 2-Leads, Body 1,60x0,82mm, IPC Medium Density)
pins: 1, 2

## 35.7K0603
designator R?
RES SMD 35.7K OHM 1% 1/8W 0603; Manufacturer Part Number: RNCP0603FTD35K7; Manufacturer: Stackpole Electronics Inc; SMD: 1
footprint RESC1608X06N/0603 (Chip Resistor, 2-Leads, Body 1,60x0,82mm, IPC Medium Density)
pins: 1, 2

## 36.5K0805
designator R?
RES SMD 36.5K OHM 1% 1/8W 0805; Manufacturer Part Number: CRCW080536K5FKEA; Manufacturer: Vishay-Dale; SMD: 1
footprint RESC2012X07N/0805 (Chip Resistor, 2-Leads, Body 2,00x1,25mm, IPC Medium Density)
pins: 1, 2

## 43K0603
designator R?
RES SMD 43K OHM 1% 1/10W 0603; Manufacturer: Yageo; Manufacturer Part Number: RC0603FR-07430KL; Resistance: 430kR; Power Rating: 100mW; Voltage Rating: 75V; Temperature Coefficient: 100ppm/°C; Voltage Rating (DC): 50V; Supplier 1: Digi-Key; RoHS: Yes; Category: Chip SMD Resistors; Stock 1: 71122; Pricing 1: 1=0,10000, 10=0,02300, 100=0,00930, 1000=0,00417, 2500=0,00362 (USD); Case/Package: 0603; Case Code (Imperial): 0603; Case Code (Metric): 1608; Weight: 7.1E-05oz; Size Code: 0603; Min Operating Temperature: -55°C; Max Operating Temperature: 155°C; Tolerance: 1%; Packaging: Tape and Reel; Termination: SMD/SMT; Resistor Type: Thick Film; Features: Moisture Resistant; Series: RC; Max Power Dissipation: 100mW; Number of Terminations: 2; Construction: Rectangular; Length: 1.6mm; Width: 0.8mm; Height: 0.45mm; Depth: 0.8mm; Military Standard: Not; Lead Free: Lead Free; RoHS Compliant: Yes; ComponentLink1URL: http://components.arrow.com/part/dataview/0323_00047473?src-supplier=Arrow+Europe; ComponentLink1Description: http://components.arrow.com/part/dataview/0323_00047473?src-supplier=Arrow+Europe; ComponentLink2URL: http://www.mouser.com/ds/2/447/RC0603-272842.pdf?src-supplier=Mouser; ComponentLink2Description: http://www.mouser.com/ds/2/447/RC0603-272842.pdf?src-supplier=Mouser; ComponentLink3URL: http://www.yageo.com/documents/recent/PYu-RC_Group_51_RoHS_L_9.pdf?src-supplier=Digi-Key; ComponentLink3Description: http://www.yageo.com/documents/recent/PYu-RC_Group_51_RoHS_L_9.pdf?src-supplier=Digi-Key; ComponentLink4URL: http://www.yageo.com/documents/recent/PYu-RC_Group_51_RoHS_L_10.pdf?src-supplier=Digi-Key; ComponentLink4Description: http://www.yageo.com/documents/recent/PYu-RC_Group_51_RoHS_L_10.pdf?src-supplier=Digi-Key; Supplier Part Number 1: 311-430KHRCT-ND
footprint RESC1608X06N/0603 (Chip Resistor, 2-Leads, Body 1,60x0,82mm, IPC Medium Density)
pins: 1, 2

## 44.2K0603
designator R?
RES SMD 44.2K OHM 1% 1/10W 0603; Manufacturer Part Number: CR0603-FX-4422ELF; Manufacturer: Bourns; SMD: 1
footprint RESC1608X06N/0603 (Chip Resistor, 2-Leads, Body 1,60x0,82mm, IPC Medium Density)
pins: 1, 2

## 47K1206
designator R?
RES SMD 47K OHM 1% 1/4W 1206; Manufacturer: Yageo; Manufacturer Part Number: RC1206FR-0747KL; SMD: 1
footprint RESC3216X07N/1206 (Chip Resistor, 2-Leads, Body 3,20x1,60mm, IPC Medium Density)
pins: 1, 2

## 47R_RR02J47RTB
designator R?
RES 47.0 OHM 2W 5% AXIAL; Manufacturer: Panasonic; Manufacturer Part Number: RR02J47RTB; TH: 1
footprint RESAD1200W80L900D350
pins: 1, 2

## 49.9R0603
designator R?
RES SMD 49.9 OHM 1% 1/8W 0603; Manufacturer Part Number: MCT06030C4999FP500; Manufacturer: Vishay Beyschlag; SMD: 1
footprint RESC1608X06N/0603 (Chip Resistor, 2-Leads, Body 1,60x0,82mm, IPC Medium Density)
pins: 1, 2

## 51R0603
designator R?
RES SMD 51 OHM 1% 1/10W 0603; Manufacturer: Yageo; Manufacturer Part Number: RC0603FR-0751RL; Resistance: 51R; Temperature Coefficient: 100ppm/°C; Power Rating: 100mW; Voltage Rating: 75V; Voltage Rating (DC): 50V; Supplier 1: Digi-Key; RoHS: Yes; Category: Chip SMD Resistors; Stock 1: 157662; Pricing 1: 1=0,10000, 10=0,02300, 100=0,00930, 1000=0,00417, 2500=0,00362 (USD); Case/Package: 0603; Contact Plating: Tin,Matte; Case Code (Imperial): 0603; Case Code (Metric): 1608; Weight: 7.1E-05oz; Size Code: 0603; Min Operating Temperature: -55°C; Max Operating Temperature: 155°C; Tolerance: 1%; Resistor Type: Thick Film; Packaging: Tape and Reel; Package Quantity: 1; Termination: SMD/SMT; Number of Terminations: 2; Max Power Dissipation: 100mW; Features: Moisture Resistant; Series: RC; Resistance Tolerance: 1%; Technology: THICK FILM; Length: 1.6mm; Width: 0.8mm; Height: 0.45mm; Depth: 0.8mm; REACH SVHC: No SVHC; Lead Free: Lead Free; RoHS Compliant: Yes; ComponentLink1URL: https://datasheet.ciiva.com/11808/0900766b80f96399-11808142.pdf?src-supplier=RSComponents; ComponentLink1Description: https://datasheet.ciiva.com/11808/0900766b80f96399-11808142.pdf?src-supplier=RSComponents; ComponentLink2URL: https://datasheet.ciiva.com/25906/pyu-rc0603-51-rohs-l-4-25906937.pdf?src-supplier=Avnet+Europe; ComponentLink2Description: https://datasheet.ciiva.com/25906/pyu-rc0603-51-rohs-l-4-25906937.pdf?src-supplier=Avnet+Europe; ComponentLink3URL: https://datasheet.ciiva.com/2454/pyu-r-int-thick-7-2454444.pdf?src-supplier=Digi-Key; ComponentLink3Description: https://datasheet.ciiva.com/2454/pyu-r-int-thick-7-2454444.pdf?src-supplier=Digi-Key; ComponentLink4URL: https://datasheet.ciiva.com/46395/443971-46395015.pdf?src-supplier=Element14; ComponentLink4Description: https://datasheet.ciiva.com/46395/443971-46395015.pdf?src-supplier=Element14; ComponentLink5URL: https://datasheet.ciiva.com/2454/pyu-r-int-thick-7-2454445.pdf?src-supplier=Digi-Key; ComponentLink5Description: https://datasheet.ciiva.com/2454/pyu-r-int-thick-7-2454445.pdf?src-supplier=Digi-Key; ComponentLink6URL: https://datasheet.ciiva.com/2454/pyu-r-int-thick-7-2454446.pdf?src-supplier=Digi-Key; ComponentLink6Description: https://datasheet.ciiva.com/2454/pyu-r-int-thick-7-2454446.pdf?src-supplier=Digi-Key; Supplier Part Number 1: 311-51.0HRCT-ND
footprint RESC1608X06N/0603 (Chip Resistor, 2-Leads, Body 1,60x0,82mm, IPC Medium Density)
pins: 1, 2

## 51R2512
designator R?
RES 51 OHM 5% 1W 2512; Manufacturer Part Number: RMCF2512JT51R0; Manufacturer: Stackpole Electronics Inc; SMD: 1
footprint RESC6332X07N/2512 (Chip Resistor, 2-Leads, Body 6,30x3,20mm, IPC Medium Density)
pins: 1, 2

## 60.4K0805
designator R?
RES SMD 60.4K OHM 1% 1/8W 0805; Manufacturer Part Number: CRCW080560K4FKEA; Manufacturer: Vishay; SMD: 1
footprint RESC2012X07N/0805 (Chip Resistor, 2-Leads, Body 2,00x1,25mm, IPC Medium Density)
pins: 1, 2

## 61.9K0603
designator R?
RES SMD 61.9K OHM 1% 1/8W 0603; Manufacturer Part Number: CRCW060361K9FKEA; Manufacturer: Vishay Beyschlag; SMD: 1
footprint RESC1608X06N/0603 (Chip Resistor, 2-Leads, Body 1,60x0,82mm, IPC Medium Density)
pins: 1, 2

## 75R0603
designator R?
RES 75 OHM 1% 1/8W 0603; Manufacturer: Vishay Dale; Manufacturer Part Number: TNPW060375R0FEEA; SMD: 1
footprint RESC1608X06N/0603 (Footprint not found)
pins: 1, 2

## 82R0603
designator R?
RES 82 OHM 1% 1/8W 0603; Manufacturer: Vishay Dale; Manufacturer Part Number: TNPW060382R0FEEA; SMD: 1
footprint RESC1608X06N/0603 (Footprint not found)
pins: 1, 2

## 100K0603
designator R?
RES SMD 100K OHM 1% 1/4W 0603; Manufacturer Part Number: ESR03EZPF1003; Manufacturer: Rohm Semiconductor; Resistance: 100kR; Temperature Coefficient: 100ppm/°C; Max Power Dissipation: 250mW; SMD: 1; Supplier 1: Digi-Key; RoHS: Yes; Category: Chip SMD Resistors; Stock 1: 32808; Pricing 1: 1=0,13000, 10=0,11400, 100=0,04400, 1000=0,01936, 2500=0,01672 (USD); Case/Package: 0603; Case Code (Metric): 1608; Case Code (Imperial): 0603; Min Operating Temperature: -55°C; Max Operating Temperature: 155°C; Tolerance: 1%; Package Quantity: 1; Packaging: Tape and Reel; Resistor Type: Thick Film; Number of Terminations: 2; Features: Automotive AEC-Q200; Series: ESR; Length: 0.063inch; Width: 0.031inch; Height: 0.022inch; RoHS Compliant: Yes; ComponentLink1URL: https://datasheet.ciiva.com/2516/esr-2516109.pdf?src-supplier=Digi-Key; ComponentLink1Description: https://datasheet.ciiva.com/2516/esr-2516109.pdf?src-supplier=Digi-Key; ComponentLink2URL: https://datasheet.ciiva.com/2516/esr-2516110.pdf?src-supplier=Digi-Key; ComponentLink2Description: https://datasheet.ciiva.com/2516/esr-2516110.pdf?src-supplier=Digi-Key; ComponentLink3URL: https://datasheet.ciiva.com/2516/esr-2516111.pdf?src-supplier=Digi-Key; ComponentLink3Description: https://datasheet.ciiva.com/2516/esr-2516111.pdf?src-supplier=Digi-Key; Supplier Part Number 1: RHM100KADCT-ND
footprint RESC1608X06N/0603 (Footprint not found)
pins: 1, 2

## 100K_AD800W55L600D230
designator R?
RES 100K OHM 1/4W 5% AXIAL; Manufacturer: Stackpole Electronics; Manufacturer Part Number: RNF14FTD100K; TH: 1
footprint RESAD800W55L600D230
pins: 1, 2

## 100K_POT3296W
designator RP?
TRIMMER 100K OHM 0.5W PC PIN TOP; Manufacturer Part Number: PV36W104C01B00; Manufacturer: Bourns Inc.; TH: 1; Max Power Dissipation: 500mW; Number of Turns: 25; Resistance: 100kR; Tolerance: 10%
footprint BOURNS_3296SERIES
pins: 1, 2, 3

## 100R1206
designator R?
RES SMD 100 OHM 0.1% 1/4W 1206; Manufacturer: Vishay BCcomponents; Manufacturer Part Number: CRCW1206100RFKEA; SMD: 1
footprint RESC3216X07N/1206 (Chip Resistor, 2-Leads, Body 3,20x1,60mm, IPC Medium Density)
pins: 1, 2

## 100R_AD800W55L600D230
designator R?
RES 100 OHM 1/4W 5% AXIAL; Manufacturer: Stackpole Electronics; Manufacturer Part Number: CF14JT100R; TH: 1
footprint RESAD800W55L600D230
pins: 1, 2

## 100R_AD1000W55L680D260
designator R?
RES 100 OHM 1W 5% AXIAL; Manufacturer: Yageo; Manufacturer Part Number: FMP100JR-52-100R; TH: 1
footprint RESAD1000W55L680D260
pins: 1, 2

## 110K0805
designator R?
RES SMD 110K OHM 0.1% 1/8W 0805; Manufacturer: Panasonic; Manufacturer Part Number: ERA-6AEB114V; Resistance: 110kR; Temperature Coefficient: 25ppm/°C; Max Power Dissipation: 125mW; Voltage Rating (DC): 100V; Supplier 1: Digi-Key; Supplier Part Number 1: P110KDACT-ND; RoHS: Yes; Category: Chip SMD Resistors; Stock 1: 1517; Pricing 1: 1=0,31000, 10=0,26200, 100=0,10230, 1000=0,04284, 2500=0,03927 (USD); Mount: Surface Mount; Case/Package: 0805; Number of Pins: 2; Case Code (Metric): 2012; Case Code (Imperial): 0805; Contact Plating: Tin; Weight: 0.000194oz; Min Operating Temperature: -55°C; Max Operating Temperature: 155°C; Tolerance: 0.1%; Packaging: Tape and Reel; Resistor Type: Thin Film; Series: ERA-6A; Number of Terminations: 2; Power Rating: 125mW; Voltage Rating: 100V; Termination: SMD/SMT; Resistance Tolerance: 0.1%; Construction: Rectangular; Technology: THIN FILM; Length: 2mm; Width: 1.25mm; Height: 0.5mm; Depth: 1.25mm; Radiation Hardening: No; RoHS Compliant: Yes; Lead Free: Lead Free; REACH SVHC: No SVHC; Military Standard: Not; ComponentLink1URL: https://datasheet.ciiva.com/26335/453664-da-01-en-widerstand-0805-era-26335726.pdf?src-supplier=Conrad; ComponentLink1Description: https://datasheet.ciiva.com/26335/453664-da-01-en-widerstand-0805-era-26335726.pdf?src-supplier=Conrad; ComponentLink2URL: https://datasheet.ciiva.com/7795/485442-7795110.pdf?src-supplier=Element14; ComponentLink2Description: https://datasheet.ciiva.com/7795/485442-7795110.pdf?src-supplier=Element14; ComponentLink3URL: https://datasheet.ciiva.com/6075/485442-6075015.pdf?src-supplier=Farnell; ComponentLink3Description: https://datasheet.ciiva.com/6075/485442-6075015.pdf?src-supplier=Farnell; ComponentLink4URL: https://datasheet.ciiva.com/48529/era-eng-tds-48529992.pdf?src-supplier=Distrelec; ComponentLink4Description: https://datasheet.ciiva.com/48529/era-eng-tds-48529992.pdf?src-supplier=Distrelec; ComponentLink5URL: https://datasheet.ciiva.com/6075/485442-6075021.pdf?src-supplier=Farnell; ComponentLink5Description: https://datasheet.ciiva.com/6075/485442-6075021.pdf?src-supplier=Farnell; ComponentLink6URL: https://datasheet.ciiva.com/7795/485442-7795111.pdf?src-supplier=Element14; ComponentLink6Description: https://datasheet.ciiva.com/7795/485442-7795111.pdf?src-supplier=Element14; ComponentLink7URL: https://datasheet.ciiva.com/17207/aoa0000ce26-17207911.pdf?src-supplier=Avnet+Europe; ComponentLink7Description: https://datasheet.ciiva.com/17207/aoa0000ce26-17207911.pdf?src-supplier=Avnet+Europe; ComponentLink8URL: https://datasheet.ciiva.com/48425/era-eng-tds-48425753.pdf?src-supplier=Distrelec; ComponentLink8Description: https://datasheet.ciiva.com/48425/era-eng-tds-48425753.pdf?src-supplier=Distrelec; ComponentLink9URL: https://datasheet.ciiva.com/30174/54aoa0000ce26-30174171.pdf?src-supplier=Onlinecomponents.com; ComponentLink9Description: https://datasheet.ciiva.com/30174/54aoa0000ce26-30174171.pdf?src-supplier=Onlinecomponents.com
footprint RESC2012X07 (Chip Resistor, 2-Leads, Body 2,00x1,25mm, IPC Medium Density 0805)
pins: 1, 2

## 110K1206
designator R?
RES SMD 110 KOHM 1% 1/4W 1206; Manufacturer: Stackpole Electronics Inc; Manufacturer Part Number: RMCF1206FG110K; Resistance: 110kR; Max Power Dissipation: 250mW; Temperature Coefficient: 100ppm/°C; SMD: 1; Supplier 1: Digi-Key; Supplier Part Number 1: RMCF1206FG110KCT-ND; RoHS: Yes; Category: Chip SMD Resistors; Stock: 9998; Pricing: 1=0,10000, 10=0,03600, 100=0,01460, 1000=0,00655, 2500=0,00569, 5000=0,00470 (USD); Mount: Surface Mount; Case/Package: 1206; Case Code (Metric): 3216; Case Code (Imperial): 1206; Contact Plating: Tin,Matte; Min Operating Temperature: -55°C; Max Operating Temperature: 155°C; Package Quantity: 10000; Packaging: Tape and Reel; Tolerance: 1%; Resistor Type: Thick Film; Number of Terminations: 2; Features: Automotive AEC-Q200; Series: RMCF; Length: 0.126inch; Width: 0.063inch; Height: 0.028inch; Radiation Hardening: No; RoHS Compliant: Yes; ComponentLink1URL: http://components.arrow.com/part/dataview/50499510S9669815N1174?src-supplier=Arrow+Electronics; ComponentLink1Description: http://components.arrow.com/part/dataview/50499510S9669815N1174?src-supplier=Arrow+Electronics; ComponentLink2URL: https://www.seielect.com/Catalog/SEI-RMCF_RMCP.pdf?src-supplier=Digi-Key; ComponentLink2Description: https://www.seielect.com/Catalog/SEI-RMCF_RMCP.pdf?src-supplier=Digi-Key; ComponentLink3URL: http://www.seielect.com/Catalog/SEI-RMCF_RMCP.pdf?src-supplier=Digi-Key; ComponentLink3Description: http://www.seielect.com/Catalog/SEI-RMCF_RMCP.pdf?src-supplier=Digi-Key; ComponentLink4URL: https://www.seielect.com/catalog/SEI-Packaging.pdf?src-supplier=Digi-Key; ComponentLink4Description: https://www.seielect.com/catalog/SEI-Packaging.pdf?src-supplier=Digi-Key; ComponentLink5URL: https://www.seielect.com/catalog/SEI-RMCF_RMCP.pdf?src-supplier=Avnet; ComponentLink5Description: https://www.seielect.com/catalog/SEI-RMCF_RMCP.pdf?src-supplier=Avnet
footprint RESC3216X07N (Chip Resistor, 2-Leads, Body 3,20x1,60mm, IPC Medium Density 1206)
pins: 1, 2

## 133K0805
designator R?
RES SMD 133K OHM 1% 1/8W 0805; Manufacturer Part Number: CRCW0805133KFKEA; Manufacturer: Vishay; SMD: 1
footprint RESC2012X07N/0805 (Chip Resistor, 2-Leads, Body 2,00x1,25mm, IPC Medium Density)
pins: 1, 2

## 147K0805
designator R?
RES SMD 147K OHM 1% 1/8W 0805; Manufacturer Part Number: ERJ-6ENF1473V; Manufacturer: Panasonic; SMD: 1
footprint RESC2012X07N/0805 (Chip Resistor, 2-Leads, Body 2,00x1,25mm, IPC Medium Density)
pins: 1, 2

## 150R0603
designator R?
RES SMD 150 OHM 1% 1/8W 0603; Manufacturer Part Number: MCT06030C1500FP500; Manufacturer: Vishay Beyschlag; SMD: 1
footprint RESC1608X06N/0603 (Chip Resistor, 2-Leads, Body 1,60x0,82mm, IPC Medium Density)
pins: 1, 2

## 165K0805
designator R?
RES SMD 165K OHM 1% 1/8W 0805; Manufacturer Part Number: ERJ-6ENF1653V; Manufacturer: Panasonic; SMD: 1
footprint RESC2012X07N/0805 (Chip Resistor, 2-Leads, Body 2,00x1,25mm, IPC Medium Density)
pins: 1, 2

## 180K0805
designator R?
RES SMD 180K OHM 1% 1/8W 0805; Manufacturer Part Number: ERJ-6ENF1803V; Manufacturer: Panasonic; SMD: 1
footprint RESC2012X07N/0805 (Chip Resistor, 2-Leads, Body 2,00x1,25mm, IPC Medium Density)
pins: 1, 2

## 180K1206
designator R?
RES SMD 180K OHM 1% 1/4W 1206; Manufacturer Part Number: KTR18EZPF1803; Manufacturer: Rohm Semiconductor; SMD: 1
footprint RESC3216X07N/1206 (Chip Resistor, 2-Leads, Body 3,20x1,60mm, IPC Medium Density)
pins: 1, 2

## 200R1206
designator R?
RES SMD 200 OHM 1% 1/4W 1206; Manufacturer Part Number: CRCW1206200RFKEA; Manufacturer: Vishay Dale; SMD: 1
footprint RESC3216X07N/1206 (Chip Resistor, 2-Leads, Body 3,20x1,60mm, IPC Medium Density)
pins: 1, 2

## 220R_AD800W55L600D230
designator R?
RES 220 OHM 1/4W 5% AXIAL; Manufacturer: Stackpole Electronics; Manufacturer Part Number: CF14JT220R0; TH: 1
footprint RESAD800W55L600D230
pins: 1, 2

## 249K0603
designator R?
RES SMD 249K OHM 1% 1/10W 0603; Manufacturer Part Number: ERJ-3EKF2493V; Manufacturer: Panasonic; SMD: 1
footprint RESC1608X06N/0603 (Chip Resistor, 2-Leads, Body 1,60x0,82mm, IPC Medium Density)
pins: 1, 2

## 270K0603
designator R?
RES 270K OHM 1% 1/8W 0603; Manufacturer Part Number: CRCW0603270KFKEA; Manufacturer: Vishay Beyschlag; SMD: 1
footprint RESC1608X06N/0603 (Chip Resistor, 2-Leads, Body 1,60x0,82mm, IPC Medium Density)
pins: 1, 2

## 330R0603
designator R?
RES 330 OHM 1% 1/8W 0603; Manufacturer: Vishay Dale; Manufacturer Part Number: TNPW0603330RFEEA; SMD: 1
footprint RESC1608X06N/0603 (Footprint not found)
pins: 1, 2

## 357R0603
designator R?
RES SMD 357 OHM 1% 1/8W 0603; Manufacturer: Panasonic; Manufacturer Part Number: ERJPA3F3573V; SMD: 1
footprint RESC1608X06N/0603 (Footprint not found)
pins: 1, 2

## 383K0805
designator R?
RES SMD 383K OHM 1% 1/8W 0805; Manufacturer Part Number: ERJ-6ENF3833V; Manufacturer: Panasonic; SMD: 1
footprint RESC2012X07N/0805 (Chip Resistor, 2-Leads, Body 2,00x1,25mm, IPC Medium Density)
pins: 1, 2

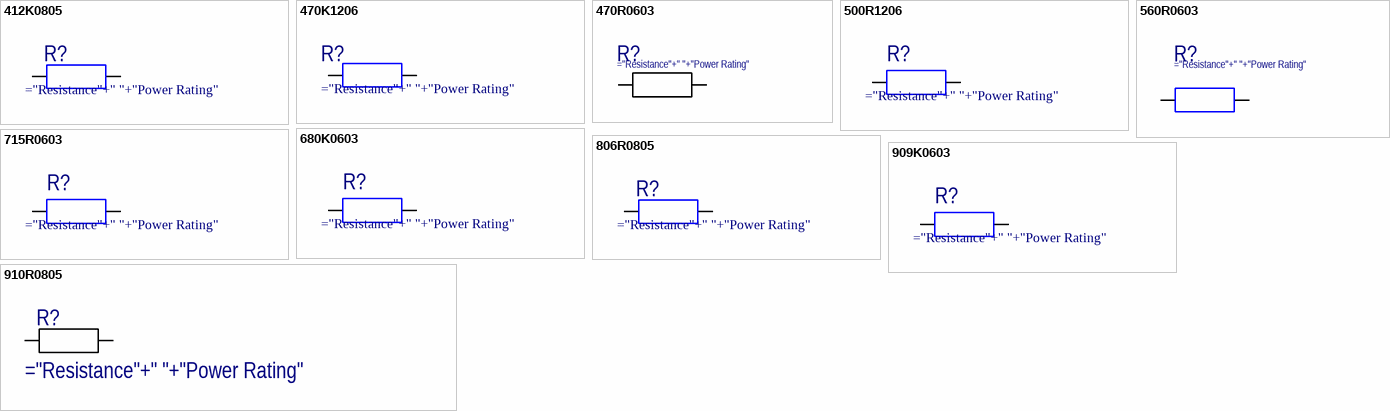
[diagram p2: symbols 412K0805 to 910R0805]

## 412K0805
designator R?
RES SMD 412K OHM 1% 1/8W 0805; Manufacturer Part Number: ERJ-6ENF4123V; Manufacturer: Panasonic; SMD: 1
footprint RESC2012X07N/0805 (Chip Resistor, 2-Leads, Body 2,00x1,25mm, IPC Medium Density)
pins: 1, 2

## 470K1206
designator R?
RES SMD 470K OHM 1% 1/4W 1206; Manufacturer: Rohm Semiconductor; Manufacturer Part Number: MCR18EZPF4703; SMD: 1
footprint RESC3216X07N/1206 (Chip Resistor, 2-Leads, Body 3,20x1,60mm, IPC Medium Density)
pins: 1, 2

## 470R0603
designator R?
RES SMD 470 OHM 5% 1/4W 0603; Manufacturer: Panasonic; Manufacturer Part Number: ERJ-PA3J471V; Max Power Dissipation: 250mW; Temperature Coefficient: 200ppm/°C; Resistance: 470R; Supplier 1: Digi-Key; RoHS: Yes; Category: Chip SMD Resistors; Stock 1: 28370; Pricing 1: 1=0,10000, 10=0,08600, 100=0,03300, 1000=0,01452, 2500=0,01254 (USD); Case/Package: 0603; Case Code (Imperial): 0603; Case Code (Metric): 1608; Min Operating Temperature: -55°C; Max Operating Temperature: 155°C; Features: Automotive AEC-Q200; Tolerance: 5%; Packaging: Cut Tape; Resistor Type: Thick Film; Number of Terminations: 2; Length: 0.063inch; Width: 0.031inch; Height: 0.018inch; ComponentLink1URL: https://industrial.panasonic.com/ww/system/files/data/download/catalog/id_fixed-resistors_e_1.pdf?src-supplier=Digi-Key; ComponentLink1Description: https://industrial.panasonic.com/ww/system/files/data/download/catalog/id_fixed-resistors_e_1.pdf?src-supplier=Digi-Key; ComponentLink2URL: https://industrial.panasonic.com/cdbs/www-data/pdf/RDO0000/AOA0000C331.pdf?src-supplier=Digi-Key; ComponentLink2Description: https://industrial.panasonic.com/cdbs/www-data/pdf/RDO0000/AOA0000C331.pdf?src-supplier=Digi-Key; Supplier Part Number 1: P470BZCT-ND
footprint RESC1608X06N/0603 (Chip Resistor, 2-Leads, Body 1,60x0,82mm, IPC Medium Density)
pins: 1, 2

## 500R1206
designator R?
RES SMD 500 OHM 0.1% 1/4W 1206; Manufacturer: Vishay BCcomponents; Manufacturer Part Number: MCA12060D5000BP500; SMD: 1
footprint RESC3216X07N/1206 (Chip Resistor, 2-Leads, Body 3,20x1,60mm, IPC Medium Density)
pins: 1, 2